# Altium footprint library PCB - LEADED - TO220 - TO254P490X1032X2046-3P.PCBLIB: 1 footprints
Each footprint in its own frame and in the unit in brackets; x right, y up, seen from the top. Pads: shape width x height; smd on the part's side, far side on the other; paste and mask are expansions set on the pad; w line width, h text height; cw(c..) or ccw(c..) is an arc to the next point about the centre after c.
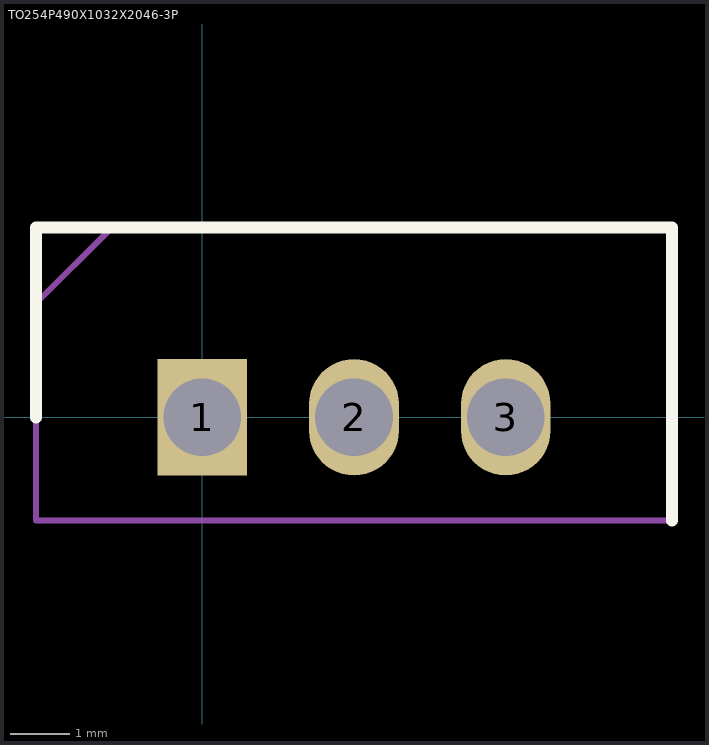
[diagram p0: the footprint, top view; thin cyan lines are the x and y axes]

## TO254P490X1032X2046-3P [mm]
pads (3):
  rect 1.5x1.95 hole 1.3: 1(0,0)
  oval 1.5x1.95 hole 1.3: 2(2.54,0) 3(5.08,0)
Top Overlay:
  lines w0.2: -2.785,0 -2.785,3.175 7.865,3.175 7.865,-1.725
Top Value (Mech13):
  lines w0.1: -2.785,1.905 -1.515,3.175 ; -2.785,-1.725 -2.785,3.175 7.865,3.175 7.865,-1.725 -2.785,-1.725
3D body "IPA70R360P7SXKSA1.stp": height 19.05, standoff -18.8, extent -2.622,-1.725 7.702,3.175